# EAGLE library part 6250XX22323_62502022323 (library con-wurth)
WR-BHD 2.00 mm Board to Cable Transition Connector KIND PROPERTIES: Pitch 2 mm Gender:Transition MATERIAL PROPERTIES: Insulator Material:PBT Insulator Flammability Rating UL94 V-0 Insulator Color:Black Contact Material :Copper Alloy Contact Plating :Gold Contact Type: Stamped GENERAL INFORMATION: Operating Temperature:-40 °C up to +125 °C Compliance:RoHS Working Voltage: 250 V (AC) Withstanding Voltage:500 V (AC) Contact Resistance: 20 mΩ Insulation Resistance:1000 MΩ CERTIFICATION UL Approval：E323964 PACKAGING PROPERTIES Packaging :Tray <https://www.we-online.de/katalog/media/o32943v209%20Family_WR-BHD_6250xx22323.jpg> Details see: https://www.we-online.de/katalog/en/em/BHD_2_00_BOARD_TO_CAB_TRANSITION_CONNECTOR_6250XX22323 Updated by Yingchun,Shan 2019-11-04 2019 (C) Würth Elektronik
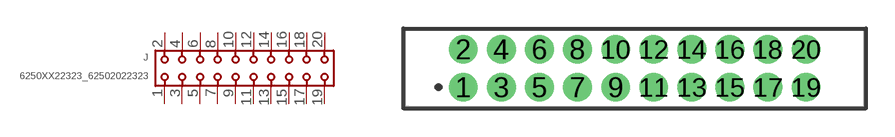
[diagram p129: symbol with the pads of 62502022323; footprint 62502022323]

Designator prefix J

## 6250XX22323_62502022323 (CONTACT-RESISTANCE: 20mOhm; DATASHEET-URL: https://www.we-online.com/redexpert/spec/62502022323?ae; GENDER: Transition; IR: 1A; LENGTH: 24.1mm; MOUNT: THT; PACKAGING: Tray; PART-NUMBER: 62502022323; PINS: 20; PITCH: 2mm; TYPE: Straight; VALUE: 62502022323; WORKING-VOLTAGE: 250V(AC))  [62502022323]
1  1  pas
2  2  pas
3  3  pas
4  4  pas
5  5  pas
6  6  pas
7  7  pas
8  8  pas
9  9  pas
10  10  pas
11  11  pas
12  12  pas
13  13  pas
14  14  pas
15  15  pas
16  16  pas
17  17  pas
18  18  pas
19  19  pas
20  20  pas

## Footprint 62502022323 (pad centres in mm)
WR-BHD 2.00 mm Board to Cable Transition Connector,20 pins
drill 1: 1 -9,-1; 2 -9,1; 3 -7,-1; 4 -7,1; 5 -5,-1; 6 -5,1; 7 -3,-1; 8 -3,1; 9 -1,-1; 10 -1,1; 11 1,-1; 12 1,1; 13 3,-1; 14 3,1; 15 5,-1; 16 5,1; 17 7,-1; 18 7,1; 19 9,-1; 20 9,1